# Altium schematic symbol library 416 131 160 8xx.SchLib: 6 symbols
Pins are listed as number, name and electrical type; pins without a type are passive.

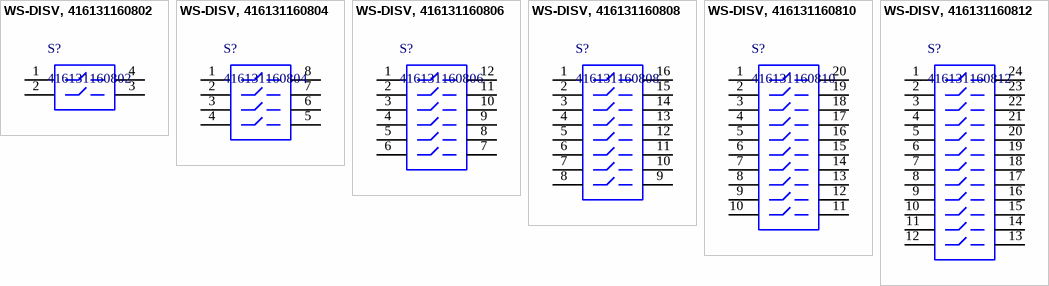
[diagram p0: symbols WS-DISV, 416131160802 to WS-DISV, 416131160812]

## WS-DISV, 416131160802
designator S?, comment 416131160802
WS-DISV 1.27 mm small compact SMD flat actuator with top tape, 2 poles; Manufacturer: Wurth Elektronik; partNo: 416131160802; ComponentLink1Description: Manufacturer; ComponentLink1URL: http://www.we-online.de; Created by: Baojun Chen; Created Date: Jan.2016; ComponentLink2Description: Datasheet; ComponentLink2URL: http://katalog.we-online.de/em/datasheet/4161311608xx.pdf
footprint 416131160802 (1.27mm Pitch, Horizontal, HP Type, SMT, flat Actuator, brown, with Tape, T&R, 2 poles)
pins: 1, 2, 3, 4

## WS-DISV, 416131160804
designator S?, comment 416131160804
WS-DISV 1.27 mm small compact SMD flat actuator with top tape, 4 poles; Manufacturer: Wurth Elektronik; partNo: 416131160804; ComponentLink1Description: Manufacturer; ComponentLink1URL: http://www.we-online.de; Created by: Baojun Chen; Created Date: Jan.2016; ComponentLink2Description: Datasheet; ComponentLink2URL: http://katalog.we-online.de/em/datasheet/4161311608xx.pdf
footprint 416131160804 (1.27mm Pitch, Horizontal, HP Type, SMT, flat Actuator, brown, with Tape, T&R, 4 poles)
pins: 1, 2, 3, 4, 5, 6, 7, 8

## WS-DISV, 416131160806
designator S?, comment 416131160806
WS-DISV 1.27 mm small compact SMD flat actuator with top tape, 6 poles; Manufacturer: Wurth Elektronik; partNo: 416131160806; ComponentLink1Description: Manufacturer; ComponentLink1URL: http://www.we-online.de; Created by: Baojun Chen; Created Date: Jan.2016; ComponentLink2Description: Datasheet; ComponentLink2URL: http://katalog.we-online.de/em/datasheet/4161311608xx.pdf
footprint 416131160806 (1.27mm Pitch, Horizontal, HP Type, SMT, flat Actuator, brown, with Tape, T&R, 6 poles)
pins: 1, 2, 3, 4, 5, 6, 7, 8, 9, 10, 11, 12

## WS-DISV, 416131160808
designator S?, comment 416131160808
WS-DISV 1.27 mm small compact SMD flat actuator with top tape, 8 poles; Manufacturer: Wurth Elektronik; partNo: 416131160808; ComponentLink1Description: Manufacturer; ComponentLink1URL: http://www.we-online.de; Created by: Baojun Chen; Created Date: Jan.2016; ComponentLink2Description: Datasheet; ComponentLink2URL: http://katalog.we-online.de/em/datasheet/4161311608xx.pdf
footprint 416131160808 (1.27mm Pitch, Horizontal, HP Type, SMT, flat Actuator, brown, with Tape, T&R, 8 poles)
pins: 1, 2, 3, 4, 5, 6, 7, 8, 9, 10, 11, 12, 13, 14, 15, 16

## WS-DISV, 416131160810
designator S?, comment 416131160810
WS-DISV 1.27 mm small compact SMD flat actuator with top tape, 10 poles; Manufacturer: Wurth Elektronik; partNo: 416131160810; ComponentLink1Description: Manufacturer; ComponentLink1URL: http://www.we-online.de; Created by: Baojun Chen; Created Date: Jan.2016; ComponentLink2Description: Datasheet; ComponentLink2URL: http://katalog.we-online.de/em/datasheet/4161311608xx.pdf
footprint 416131160810 (1.27mm Pitch, Horizontal, HP Type, SMT, flat Actuator, brown, with Tape, T&R, 10 poles)
pins: 1, 2, 3, 4, 5, 6, 7, 8, 9, 10, 11, 12, 13, 14, 15, 16, 17, 18, 19, 20

## WS-DISV, 416131160812
designator S?, comment 416131160812
WS-DISV 1.27 mm small compact SMD flat actuator with top tape, 12 poles; Manufacturer: Wurth Elektronik; partNo: 416131160812; ComponentLink1Description: Manufacturer; ComponentLink1URL: http://www.we-online.de; Created by: Baojun Chen; Created Date: Jan.2016; ComponentLink2Description: Datasheet; ComponentLink2URL: http://katalog.we-online.de/em/datasheet/4161311608xx.pdf
footprint 416131160812 (1.27mm Pitch, Horizontal, HP Type, SMT, flat Actuator, brown, with Tape, T&R, 12 poles)
pins: 1, 2, 3, 4, 5, 6, 7, 8, 9, 10, 11, 12, 13, 14, 15, 16, 17, 18, 19, 20, 21, 22, 23, 24